# EAGLE library part 28FXXX (library memory-intel)
FLASH Strata-Flash Memory (J3) 256-Mbit (x8/x16)
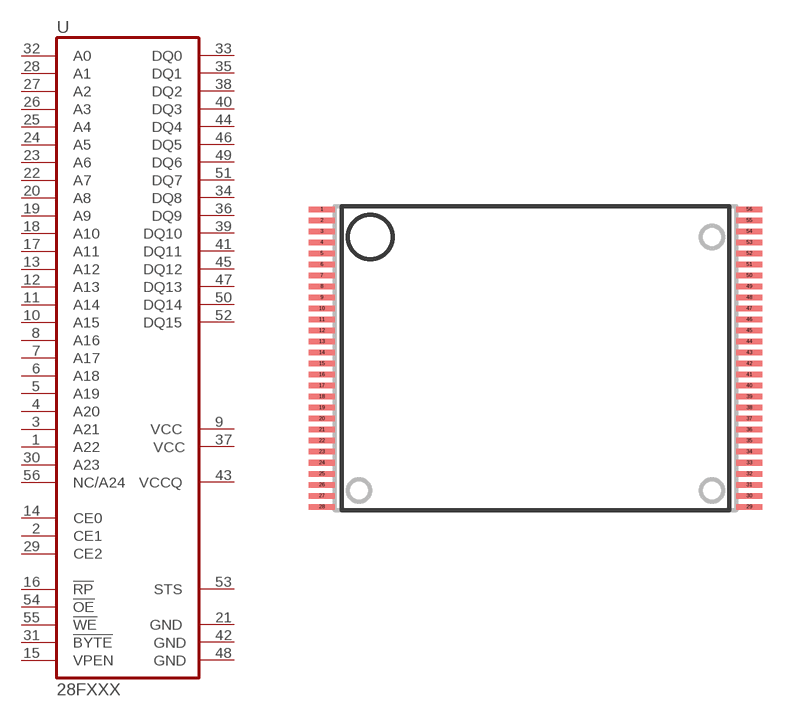
[diagram p2: symbol with the pads of TSOP56; footprint TSOP56]

Designator prefix U

## 28FXXX  [TSOP56]
1  A22  in
2  CE1  in
3  A21  in
4  A20  in
5  A19  in
6  A18  in
7  A17  in
8  A16  in
9  VCC  pwr
10  A15  in
11  A14  in
12  A13  in
13  A12  in
14  CE0  in
15  VPEN  in
16  !RP!  in
17  A11  in
18  A10  in
19  A9  in
20  A8  in
21  GND  pwr
22  A7  in
23  A6  in
24  A5  in
25  A4  in
26  A3  in
27  A2  in
28  A1  in
29  CE2  in
30  A23  in
31  !BYTE!  in
32  A0  in
33  DQ0
34  DQ8
35  DQ1
36  DQ9
37  VCC2  pwr
38  DQ2
39  DQ10
40  DQ3
41  DQ11
42  GND2  pwr
43  VCCQ  pwr
44  DQ4
45  DQ12
46  DQ5
47  DQ13
48  GND3  pwr
49  DQ6
50  DQ14
51  DQ7
52  DQ15
53  STS  out
54  !OE!  in
55  !WE!  in
56  NC/A24

## Footprint TSOP56 (pad centres in mm)
Thin Small Outline Package
smd 1.2 x 0.25: 1 -9.7,6.75; 2 -9.7,6.25; 3 -9.7,5.75; 4 -9.7,5.25; 5 -9.7,4.75; 6 -9.7,4.25; 7 -9.7,3.75; 8 -9.7,3.25; 9 -9.7,2.75; 10 -9.7,2.25; 11 -9.7,1.75; 12 -9.7,1.25; 13 -9.7,0.75; 14 -9.7,0.25; 15 -9.7,-0.25; 16 -9.7,-0.75; 17 -9.7,-1.25; 18 -9.7,-1.75; 19 -9.7,-2.25; 20 -9.7,-2.75; 21 -9.7,-3.25; 22 -9.7,-3.75; 23 -9.7,-4.25; 24 -9.7,-4.75; 25 -9.7,-5.25; 26 -9.7,-5.75; 27 -9.7,-6.25; 28 -9.7,-6.75; 29 9.7,-6.75; 30 9.7,-6.25; 31 9.7,-5.75; 32 9.7,-5.25; 33 9.7,-4.75; 34 9.7,-4.25; 35 9.7,-3.75; 36 9.7,-3.25; 37 9.7,-2.75; 38 9.7,-2.25; 39 9.7,-1.75; 40 9.7,-1.25; 41 9.7,-0.75; 42 9.7,-0.25; 43 9.7,0.25; 44 9.7,0.75; 45 9.7,1.25; 46 9.7,1.75; 47 9.7,2.25; 48 9.7,2.75; 49 9.7,3.25; 50 9.7,3.75; 51 9.7,4.25; 52 9.7,4.75; 53 9.7,5.25; 54 9.7,5.75; 55 9.7,6.25; 56 9.7,6.75